# Altium integrated library TI_Logic_Specialty_Logic.IntLib: 2504 symbols (part 79 of 81)
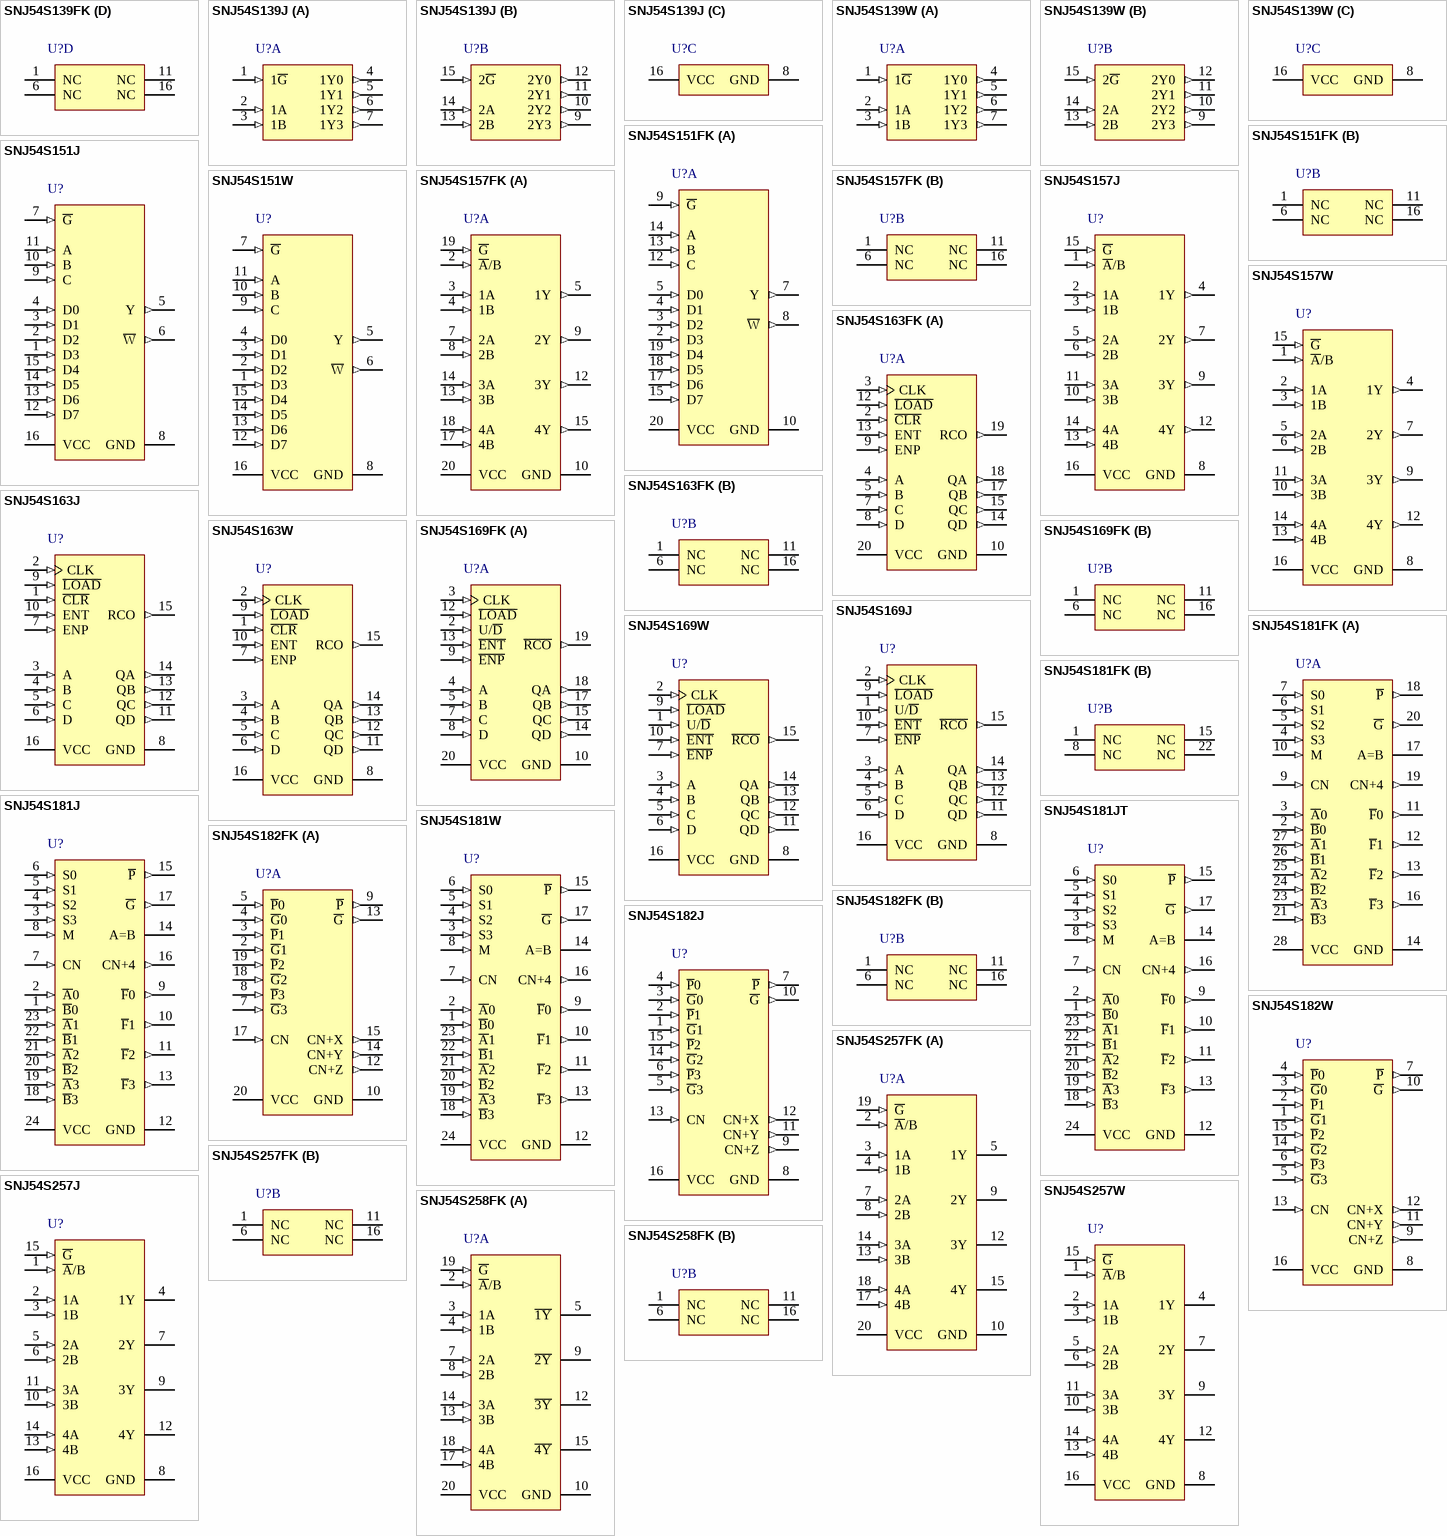
[diagram p182: symbols SNJ54S139FK to SNJ54S258FK]

## SNJ54S163FK
designator U?
Synchronous 4-Bit Counters, FK0020A, TUBE; Generic Part Number: SN54S163; Manufacturer: Texas Instruments; PartNumber: SNJ54S163FK; VCC(Min)(V): 4.75; VCC(Max)(V): 5.25; Inputs: 1; ICC @ Nom Voltage(Max)(mA): 160; Bits(#): 4; F @ Nom Voltage(Max)(Mhz): 50; Rating: Military; Technology Family: S; Output Drive (IOL/IOH)(Max)(mA): 20/-1; tpd @ Nom Voltage(Max)(ns): 25; DatasheetVersion: SDLS060; PackageReference: FK0020A; Function: Counter; Operating Temperature Range(C): -55 to 125; Type: Binary; Code_JEDEC: MS-004; ComponentLink1Description: Manufacturer URL; ComponentLink1URL: http://www.ti.com/; ComponentLink2Description: Datasheet; ComponentLink2URL: http://www.ti.com/lit/ds/symlink/sn54s163.pdf; ComponentLink3Description: Package Specification; ComponentLink3URL: http://www.ti.com/lit/ml/mlcc006d/mlcc006d.pdf
footprint FK0020A_N (LCC, 20-Leads, Body 8.9x8.9mm, Pitch 1.27mm, IPC Medium Density)
footprint FK0020A_M (LCC, 20-Leads, Body 8.9x8.9mm, Pitch 1.27mm, IPC Low Density)
footprint FK0020A_L (LCC, 20-Leads, Body 8.9x8.9mm, Pitch 1.27mm, IPC High Density)
part A pins: 2 ~{CLR} (in), 3 CLK (in), 4 A (in), 5 B (in), 7 C (in), 8 D (in), 9 ENP (in), 10 GND (power), 12 ~{LOAD} (in), 13 ENT (in), 14 QD (out), 15 QC (out), 17 QB (out), 18 QA (out), 19 RCO (out), 20 VCC (power)
part B pins: 1 NC, 6 NC, 11 NC, 16 NC

## SNJ54S163J
designator U?
Synchronous 4-Bit Counters, J0016A, TUBE; Generic Part Number: SN54S163; Manufacturer: Texas Instruments; PartNumber: SNJ54S163J; VCC(Min)(V): 4.75; VCC(Max)(V): 5.25; Inputs: 1; ICC @ Nom Voltage(Max)(mA): 160; Bits(#): 4; F @ Nom Voltage(Max)(Mhz): 50; Rating: Military; Technology Family: S; Output Drive (IOL/IOH)(Max)(mA): 20/-1; tpd @ Nom Voltage(Max)(ns): 25; DatasheetVersion: SDLS060; PackageReference: J0016A; Function: Counter; Operating Temperature Range(C): -55 to 125; Type: Binary; ComponentLink1Description: Manufacturer URL; ComponentLink1URL: http://www.ti.com/; ComponentLink2Description: Datasheet; ComponentLink2URL: http://www.ti.com/lit/ds/symlink/sn54s163.pdf; ComponentLink3Description: Package Specification; ComponentLink3URL: http://www.ti.com/lit/ml/mcer002d/mcer002d.pdf
footprint J0016A (DIP, 16-Leads, Body 21.35x7.2mm, Pitch 2.54mm)
pins: 1 ~{CLR} (in), 2 CLK (in), 3 A (in), 4 B (in), 5 C (in), 6 D (in), 7 ENP (in), 8 GND (power), 9 ~{LOAD} (in), 10 ENT (in), 11 QD (out), 12 QC (out), 13 QB (out), 14 QA (out), 15 RCO (out), 16 VCC (power)

## SNJ54S163W
designator U?
Synchronous 4-Bit Counters, W0016A, TUBE; Generic Part Number: SN54S163; Manufacturer: Texas Instruments; PartNumber: SNJ54S163W; VCC(Min)(V): 4.75; VCC(Max)(V): 5.25; Inputs: 1; ICC @ Nom Voltage(Max)(mA): 160; Bits(#): 4; F @ Nom Voltage(Max)(Mhz): 50; Rating: Military; Technology Family: S; Output Drive (IOL/IOH)(Max)(mA): 20/-1; tpd @ Nom Voltage(Max)(ns): 25; DatasheetVersion: SDLS060; PackageReference: W0016A; Function: Counter; Operating Temperature Range(C): -55 to 125; Type: Binary; ComponentLink1Description: Manufacturer URL; ComponentLink1URL: http://www.ti.com/; ComponentLink2Description: Datasheet; ComponentLink2URL: http://www.ti.com/lit/ds/symlink/sn54s163.pdf; ComponentLink3Description: Package Specification; ComponentLink3URL: http://www.ti.com/lit/ml/mcfp004c/mcfp004c.pdf
footprint W0016A_N (CFP, 16-Leads, Body 10.92x7.24mm, Pitch 1.27mm, IPC Medium Density)
footprint W0016A_M (CFP, 16-Leads, Body 10.92x7.24mm, Pitch 1.27mm, IPC Low Density)
footprint W0016A_L (CFP, 16-Leads, Body 10.92x7.24mm, Pitch 1.27mm, IPC High Density)
pins: 1 ~{CLR} (in), 2 CLK (in), 3 A (in), 4 B (in), 5 C (in), 6 D (in), 7 ENP (in), 8 GND (power), 9 ~{LOAD} (in), 10 ENT (in), 11 QD (out), 12 QC (out), 13 QB (out), 14 QA (out), 15 RCO (out), 16 VCC (power)

## SNJ54S169FK
designator U?
Synchronous 4-Bit Up/Down Binary Counters, FK0020A, TUBE; Generic Part Number: SN54S169; Manufacturer: Texas Instruments; PartNumber: SNJ54S169FK; Rating: Military; Technology Family: S; DatasheetVersion: SDLS134; PackageReference: FK0020A; Operating Temperature Range(C): -55 to 125; Code_JEDEC: MS-004; ComponentLink1Description: Manufacturer URL; ComponentLink1URL: http://www.ti.com/; ComponentLink2Description: Datasheet; ComponentLink2URL: http://www.ti.com/lit/ds/symlink/sn54s169.pdf; ComponentLink3Description: Package Specification; ComponentLink3URL: http://www.ti.com/lit/ml/mlcc006d/mlcc006d.pdf
footprint FK0020A_N (LCC, 20-Leads, Body 8.9x8.9mm, Pitch 1.27mm, IPC Medium Density)
footprint FK0020A_M (LCC, 20-Leads, Body 8.9x8.9mm, Pitch 1.27mm, IPC Low Density)
footprint FK0020A_L (LCC, 20-Leads, Body 8.9x8.9mm, Pitch 1.27mm, IPC High Density)
part A pins: 2 U/~{D} (in), 3 CLK (in), 4 A (in), 5 B (in), 7 C (in), 8 D (in), 9 ~{ENP} (in), 10 GND (power), 12 ~{LOAD} (in), 13 ~{ENT} (in), 14 QD (out), 15 QC (out), 17 QB (out), 18 QA (out), 19 ~{RCO} (out), 20 VCC (power)
part B pins: 1 NC, 6 NC, 11 NC, 16 NC

## SNJ54S169J
designator U?
Synchronous 4-Bit Up/Down Binary Counters, J0016A, TUBE; Generic Part Number: SN54S169; Manufacturer: Texas Instruments; PartNumber: SNJ54S169J; Rating: Military; Technology Family: S; DatasheetVersion: SDLS134; PackageReference: J0016A; Operating Temperature Range(C): -55 to 125; ComponentLink1Description: Manufacturer URL; ComponentLink1URL: http://www.ti.com/; ComponentLink2Description: Datasheet; ComponentLink2URL: http://www.ti.com/lit/ds/symlink/sn54s169.pdf; ComponentLink3Description: Package Specification; ComponentLink3URL: http://www.ti.com/lit/ml/mcer002d/mcer002d.pdf
footprint J0016A (DIP, 16-Leads, Body 21.35x7.2mm, Pitch 2.54mm)
pins: 1 U/~{D} (in), 2 CLK (in), 3 A (in), 4 B (in), 5 C (in), 6 D (in), 7 ~{ENP} (in), 8 GND (power), 9 ~{LOAD} (in), 10 ~{ENT} (in), 11 QD (out), 12 QC (out), 13 QB (out), 14 QA (out), 15 ~{RCO} (out), 16 VCC (power)

## SNJ54S169W
designator U?
Synchronous 4-Bit Up/Down Binary Counters, W0016A, TUBE; Generic Part Number: SN54S169; Manufacturer: Texas Instruments; PartNumber: SNJ54S169W; Rating: Military; Technology Family: S; DatasheetVersion: SDLS134; PackageReference: W0016A; Operating Temperature Range(C): -55 to 125; ComponentLink1Description: Manufacturer URL; ComponentLink1URL: http://www.ti.com/; ComponentLink2Description: Datasheet; ComponentLink2URL: http://www.ti.com/lit/ds/symlink/sn54s169.pdf; ComponentLink3Description: Package Specification; ComponentLink3URL: http://www.ti.com/lit/ml/mcfp004c/mcfp004c.pdf
footprint W0016A_N (CFP, 16-Leads, Body 10.92x7.24mm, Pitch 1.27mm, IPC Medium Density)
footprint W0016A_M (CFP, 16-Leads, Body 10.92x7.24mm, Pitch 1.27mm, IPC Low Density)
footprint W0016A_L (CFP, 16-Leads, Body 10.92x7.24mm, Pitch 1.27mm, IPC High Density)
pins: 1 U/~{D} (in), 2 CLK (in), 3 A (in), 4 B (in), 5 C (in), 6 D (in), 7 ~{ENP} (in), 8 GND (power), 9 ~{LOAD} (in), 10 ~{ENT} (in), 11 QD (out), 12 QC (out), 13 QB (out), 14 QA (out), 15 ~{RCO} (out), 16 VCC (power)

## SNJ54S181FK
designator U?
Arithmetic Logic Units/Function Generators, FK0028A, TUBE; Generic Part Number: SN54S181; Manufacturer: Texas Instruments; PartNumber: SNJ54S181FK; Rating: Military; Technology Family: S; DatasheetVersion: SDLS136; PackageReference: FK0028A; Operating Temperature Range(C): -55 to 125; Code_JEDEC: MS-004; ComponentLink1Description: Manufacturer URL; ComponentLink1URL: http://www.ti.com/; ComponentLink2Description: Datasheet; ComponentLink2URL: http://www.ti.com/lit/ds/symlink/sn54s181.pdf; ComponentLink3Description: Package Specification; ComponentLink3URL: http://www.ti.com/lit/ml/mlcc006d/mlcc006d.pdf
footprint FK0028A_N (LCC, 28-Leads, Body 11.43x11.43mm, Pitch 1.27mm, IPC Medium Density)
footprint FK0028A_M (LCC, 28-Leads, Body 11.43x11.43mm, Pitch 1.27mm, IPC Low Density)
footprint FK0028A_L (LCC, 28-Leads, Body 11.43x11.43mm, Pitch 1.27mm, IPC High Density)
part A pins: 2 ~{B}0 (in), 3 ~{A}0 (in), 4 S3 (in), 5 S2 (in), 6 S1 (in), 7 S0 (in), 9 CN (in), 10 M (in), 11 ~{F}0 (out), 12 ~{F}1 (out), 13 ~{F}2 (out), 14 GND (power), 16 ~{F}3 (out), 17 A=B (oc), 18 ~{P} (out), 19 CN+4 (out), 20 ~{G} (out), 21 ~{B}3 (in), 23 ~{A}3 (in), 24 ~{B}2 (in), 25 ~{A}2 (in), 26 ~{B}1 (in), 27 ~{A}1 (in), 28 VCC (power)
part B pins: 1 NC, 8 NC, 15 NC, 22 NC

## SNJ54S181J
designator U?
Arithmetic Logic Units/Function Generators, J0024A, TUBE; Generic Part Number: SN54S181; Manufacturer: Texas Instruments; PartNumber: SNJ54S181J; Rating: Military; Technology Family: S; DatasheetVersion: SDLS136; PackageReference: J0024A; Operating Temperature Range(C): -55 to 125; ComponentLink1Description: Manufacturer URL; ComponentLink1URL: http://www.ti.com/; ComponentLink2Description: Datasheet; ComponentLink2URL: http://www.ti.com/lit/ds/symlink/sn54s181.pdf; ComponentLink3Description: Package Specification; ComponentLink3URL: http://www.ti.com/lit/ml/mcer002d/mcer002d.pdf
footprint J0024A (DIP, 24-Leads, Body 32.15x14.85mm, Pitch 2.54mm)
pins: 1 ~{B}0 (in), 2 ~{A}0 (in), 3 S3 (in), 4 S2 (in), 5 S1 (in), 6 S0 (in), 7 CN (in), 8 M (in), 9 ~{F}0 (out), 10 ~{F}1 (out), 11 ~{F}2 (out), 12 GND (power), 13 ~{F}3 (out), 14 A=B (oc), 15 ~{P} (out), 16 CN+4 (out), 17 ~{G} (out), 18 ~{B}3 (in), 19 ~{A}3 (in), 20 ~{B}2 (in), 21 ~{A}2 (in), 22 ~{B}1 (in), 23 ~{A}1 (in), 24 VCC (power)

## SNJ54S181JT
designator U?
Arithmetic Logic Units/Function Generators, JT0024A, TUBE; Generic Part Number: SN54S181; Manufacturer: Texas Instruments; PartNumber: SNJ54S181JT; Rating: Military; Technology Family: S; DatasheetVersion: SDLS136; PackageReference: JT0024A; Operating Temperature Range(C): -55 to 125; Code_JEDEC: MO-058 AA; ComponentLink1Description: Manufacturer URL; ComponentLink1URL: http://www.ti.com/; ComponentLink2Description: Datasheet; ComponentLink2URL: http://www.ti.com/lit/ds/symlink/sn54s181.pdf; ComponentLink3Description: Package Specification; ComponentLink3URL: http://www.ti.com/lit/ml/mcer004a/mcer004a.pdf
footprint JT0024A (DIP, 24-Leads, Body 7.2x32.5mm, Pitch 2.54mm)
pins: 1 ~{B}0 (in), 2 ~{A}0 (in), 3 S3 (in), 4 S2 (in), 5 S1 (in), 6 S0 (in), 7 CN (in), 8 M (in), 9 ~{F}0 (out), 10 ~{F}1 (out), 11 ~{F}2 (out), 12 GND (power), 13 ~{F}3 (out), 14 A=B (oc), 15 ~{P} (out), 16 CN+4 (out), 17 ~{G} (out), 18 ~{B}3 (in), 19 ~{A}3 (in), 20 ~{B}2 (in), 21 ~{A}2 (in), 22 ~{B}1 (in), 23 ~{A}1 (in), 24 VCC (power)

## SNJ54S181W
designator U?
Arithmetic Logic Units/Function Generators, W0024A, TUBE; Generic Part Number: SN54S181; Manufacturer: Texas Instruments; PartNumber: SNJ54S181W; Rating: Military; Technology Family: S; DatasheetVersion: SDLS136; PackageReference: W0024A; Operating Temperature Range(C): -55 to 125; ComponentLink1Description: Manufacturer URL; ComponentLink1URL: http://www.ti.com/; ComponentLink2Description: Datasheet; ComponentLink2URL: http://www.ti.com/lit/ds/symlink/sn54s181.pdf; ComponentLink3Description: Package Specification; ComponentLink3URL: http://www.ti.com/lit/ml/mcfp006d/mcfp006d.pdf
footprint W0024A_N (CFP, 24-Leads, Body 16.26x9.53mm, Pitch 1.27mm, IPC Medium Density)
footprint W0024A_M (CFP, 24-Leads, Body 16.26x9.53mm, Pitch 1.27mm, IPC Low Density)
footprint W0024A_L (CFP, 24-Leads, Body 16.26x9.53mm, Pitch 1.27mm, IPC High Density)
pins: 1 ~{B}0 (in), 2 ~{A}0 (in), 3 S3 (in), 4 S2 (in), 5 S1 (in), 6 S0 (in), 7 CN (in), 8 M (in), 9 ~{F}0 (out), 10 ~{F}1 (out), 11 ~{F}2 (out), 12 GND (power), 13 ~{F}3 (out), 14 A=B (oc), 15 ~{P} (out), 16 CN+4 (out), 17 ~{G} (out), 18 ~{B}3 (in), 19 ~{A}3 (in), 20 ~{B}2 (in), 21 ~{A}2 (in), 22 ~{B}1 (in), 23 ~{A}1 (in), 24 VCC (power)

## SNJ54S182FK
designator U?
Look-Ahead Carry Generators, FK0020A, TUBE; Generic Part Number: SN54S182; Manufacturer: Texas Instruments; PartNumber: SNJ54S182FK; Rating: Military; Technology Family: S; DatasheetVersion: SDLS206; PackageReference: FK0020A; Operating Temperature Range(C): -55 to 125; Code_JEDEC: MS-004; ComponentLink1Description: Manufacturer URL; ComponentLink1URL: http://www.ti.com/; ComponentLink2Description: Datasheet; ComponentLink2URL: http://www.ti.com/lit/ds/symlink/sn54s182.pdf; ComponentLink3Description: Package Specification; ComponentLink3URL: http://www.ti.com/lit/ml/mlcc006d/mlcc006d.pdf
footprint FK0020A_N (LCC, 20-Leads, Body 8.9x8.9mm, Pitch 1.27mm, IPC Medium Density)
footprint FK0020A_M (LCC, 20-Leads, Body 8.9x8.9mm, Pitch 1.27mm, IPC Low Density)
footprint FK0020A_L (LCC, 20-Leads, Body 8.9x8.9mm, Pitch 1.27mm, IPC High Density)
part A pins: 2 ~{G}1 (in), 3 ~{P}1 (in), 4 ~{G}0 (in), 5 ~{P}0 (in), 7 ~{G}3 (in), 8 ~{P}3 (in), 9 ~{P} (out), 10 GND (power), 12 CN+Z (out), 13 ~{G} (out), 14 CN+Y (out), 15 CN+X (out), 17 CN (in), 18 ~{G}2 (in), 19 ~{P}2 (in), 20 VCC (power)
part B pins: 1 NC, 6 NC, 11 NC, 16 NC

## SNJ54S182J
designator U?
Look-Ahead Carry Generators, J0016A, TUBE; Generic Part Number: SN54S182; Manufacturer: Texas Instruments; PartNumber: SNJ54S182J; Rating: Military; Technology Family: S; DatasheetVersion: SDLS206; PackageReference: J0016A; Operating Temperature Range(C): -55 to 125; ComponentLink1Description: Manufacturer URL; ComponentLink1URL: http://www.ti.com/; ComponentLink2Description: Datasheet; ComponentLink2URL: http://www.ti.com/lit/ds/symlink/sn54s182.pdf; ComponentLink3Description: Package Specification; ComponentLink3URL: http://www.ti.com/lit/ml/mcer002d/mcer002d.pdf
footprint J0016A (DIP, 16-Leads, Body 21.35x7.2mm, Pitch 2.54mm)
pins: 1 ~{G}1 (in), 2 ~{P}1 (in), 3 ~{G}0 (in), 4 ~{P}0 (in), 5 ~{G}3 (in), 6 ~{P}3 (in), 7 ~{P} (out), 8 GND (power), 9 CN+Z (out), 10 ~{G} (out), 11 CN+Y (out), 12 CN+X (out), 13 CN (in), 14 ~{G}2 (in), 15 ~{P}2 (in), 16 VCC (power)

## SNJ54S182W
designator U?
Look-Ahead Carry Generators, W0016A, TUBE; Generic Part Number: SN54S182; Manufacturer: Texas Instruments; PartNumber: SNJ54S182W; Rating: Military; Technology Family: S; DatasheetVersion: SDLS206; PackageReference: W0016A; Operating Temperature Range(C): -55 to 125; ComponentLink1Description: Manufacturer URL; ComponentLink1URL: http://www.ti.com/; ComponentLink2Description: Datasheet; ComponentLink2URL: http://www.ti.com/lit/ds/symlink/sn54s182.pdf; ComponentLink3Description: Package Specification; ComponentLink3URL: http://www.ti.com/lit/ml/mcfp004c/mcfp004c.pdf
footprint W0016A_N (CFP, 16-Leads, Body 10.92x7.24mm, Pitch 1.27mm, IPC Medium Density)
footprint W0016A_M (CFP, 16-Leads, Body 10.92x7.24mm, Pitch 1.27mm, IPC Low Density)
footprint W0016A_L (CFP, 16-Leads, Body 10.92x7.24mm, Pitch 1.27mm, IPC High Density)
pins: 1 ~{G}1 (in), 2 ~{P}1 (in), 3 ~{G}0 (in), 4 ~{P}0 (in), 5 ~{G}3 (in), 6 ~{P}3 (in), 7 ~{P} (out), 8 GND (power), 9 CN+Z (out), 10 ~{G} (out), 11 CN+Y (out), 12 CN+X (out), 13 CN (in), 14 ~{G}2 (in), 15 ~{P}2 (in), 16 VCC (power)

## SNJ54S257FK
designator U?
Quadruple 2-Line To 1-Line Data Selectors/Multiplexers, FK0020A, TUBE; Generic Part Number: SN54S257; Manufacturer: Texas Instruments; PartNumber: SNJ54S257FK; VCC(Min)(V): 4.5; VCC(Max)(V): 5.5; Rating: Military; Technology Family: S; Schmitt Trigger: No; DatasheetVersion: SDLS148; PackageReference: FK0020A; Operating Temperature Range(C): -55 to 125; Code_JEDEC: MS-004; ComponentLink1Description: Manufacturer URL; ComponentLink1URL: http://www.ti.com/; ComponentLink2Description: Datasheet; ComponentLink2URL: http://www.ti.com/lit/ds/symlink/sn54s257.pdf; ComponentLink3Description: Package Specification; ComponentLink3URL: http://www.ti.com/lit/ml/mlcc006d/mlcc006d.pdf
footprint FK0020A_N (LCC, 20-Leads, Body 8.9x8.9mm, Pitch 1.27mm, IPC Medium Density)
footprint FK0020A_M (LCC, 20-Leads, Body 8.9x8.9mm, Pitch 1.27mm, IPC Low Density)
footprint FK0020A_L (LCC, 20-Leads, Body 8.9x8.9mm, Pitch 1.27mm, IPC High Density)
part A pins: 2 ~{A}/B (in), 3 1A (in), 4 1B (in), 5 1Y (hiz), 7 2A (in), 8 2B (in), 9 2Y (hiz), 10 GND (power), 12 3Y (hiz), 13 3B (in), 14 3A (in), 15 4Y (hiz), 17 4B (in), 18 4A (in), 19 ~{G} (in), 20 VCC (power)
part B pins: 1 NC, 6 NC, 11 NC, 16 NC

## SNJ54S257J
designator U?
Quadruple 2-Line To 1-Line Data Selectors/Multiplexers, J0016A, TUBE; Generic Part Number: SN54S257; Manufacturer: Texas Instruments; PartNumber: SNJ54S257J; VCC(Min)(V): 4.5; VCC(Max)(V): 5.5; Rating: Military; Technology Family: S; Schmitt Trigger: No; DatasheetVersion: SDLS148; PackageReference: J0016A; Operating Temperature Range(C): -55 to 125; ComponentLink1Description: Manufacturer URL; ComponentLink1URL: http://www.ti.com/; ComponentLink2Description: Datasheet; ComponentLink2URL: http://www.ti.com/lit/ds/symlink/sn54s257.pdf; ComponentLink3Description: Package Specification; ComponentLink3URL: http://www.ti.com/lit/ml/mcer002d/mcer002d.pdf
footprint J0016A (DIP, 16-Leads, Body 21.35x7.2mm, Pitch 2.54mm)
pins: 1 ~{A}/B (in), 2 1A (in), 3 1B (in), 4 1Y (hiz), 5 2A (in), 6 2B (in), 7 2Y (hiz), 8 GND (power), 9 3Y (hiz), 10 3B (in), 11 3A (in), 12 4Y (hiz), 13 4B (in), 14 4A (in), 15 ~{G} (in), 16 VCC (power)

## SNJ54S257W
designator U?
Quadruple 2-Line To 1-Line Data Selectors/Multiplexers, W0016A, TUBE; Generic Part Number: SN54S257; Manufacturer: Texas Instruments; PartNumber: SNJ54S257W; VCC(Min)(V): 4.5; VCC(Max)(V): 5.5; Rating: Military; Technology Family: S; Schmitt Trigger: No; DatasheetVersion: SDLS148; PackageReference: W0016A; Operating Temperature Range(C): -55 to 125; ComponentLink1Description: Manufacturer URL; ComponentLink1URL: http://www.ti.com/; ComponentLink2Description: Datasheet; ComponentLink2URL: http://www.ti.com/lit/ds/symlink/sn54s257.pdf; ComponentLink3Description: Package Specification; ComponentLink3URL: http://www.ti.com/lit/ml/mcfp004c/mcfp004c.pdf
footprint W0016A_N (CFP, 16-Leads, Body 10.92x7.24mm, Pitch 1.27mm, IPC Medium Density)
footprint W0016A_M (CFP, 16-Leads, Body 10.92x7.24mm, Pitch 1.27mm, IPC Low Density)
footprint W0016A_L (CFP, 16-Leads, Body 10.92x7.24mm, Pitch 1.27mm, IPC High Density)
pins: 1 ~{A}/B (in), 2 1A (in), 3 1B (in), 4 1Y (hiz), 5 2A (in), 6 2B (in), 7 2Y (hiz), 8 GND (power), 9 3Y (hiz), 10 3B (in), 11 3A (in), 12 4Y (hiz), 13 4B (in), 14 4A (in), 15 ~{G} (in), 16 VCC (power)

## SNJ54S258FK
designator U?
Quadruple 2-Line To 1-Line Data Selectors/Multiplexers, FK0020A, TUBE; Generic Part Number: SN54S258; Manufacturer: Texas Instruments; PartNumber: SNJ54S258FK; VCC(Min)(V): 4.5; VCC(Max)(V): 5.5; Rating: Military; Technology Family: S; Schmitt Trigger: No; DatasheetVersion: SDLS148; PackageReference: FK0020A; Operating Temperature Range(C): -55 to 125; Code_JEDEC: MS-004; ComponentLink1Description: Manufacturer URL; ComponentLink1URL: http://www.ti.com/; ComponentLink2Description: Datasheet; ComponentLink2URL: http://www.ti.com/lit/ds/symlink/sn54s258.pdf; ComponentLink3Description: Package Specification; ComponentLink3URL: http://www.ti.com/lit/ml/mlcc006d/mlcc006d.pdf
footprint FK0020A_N (LCC, 20-Leads, Body 8.9x8.9mm, Pitch 1.27mm, IPC Medium Density)
footprint FK0020A_M (LCC, 20-Leads, Body 8.9x8.9mm, Pitch 1.27mm, IPC Low Density)
footprint FK0020A_L (LCC, 20-Leads, Body 8.9x8.9mm, Pitch 1.27mm, IPC High Density)
part A pins: 2 ~{A}/B (in), 3 1A (in), 4 1B (in), 5 ~{1Y} (hiz), 7 2A (in), 8 2B (in), 9 ~{2Y} (hiz), 10 GND (power), 12 ~{3Y} (hiz), 13 3B (in), 14 3A (in), 15 ~{4Y} (hiz), 17 4B (in), 18 4A (in), 19 ~{G} (in), 20 VCC (power)
part B pins: 1 NC, 6 NC, 11 NC, 16 NC

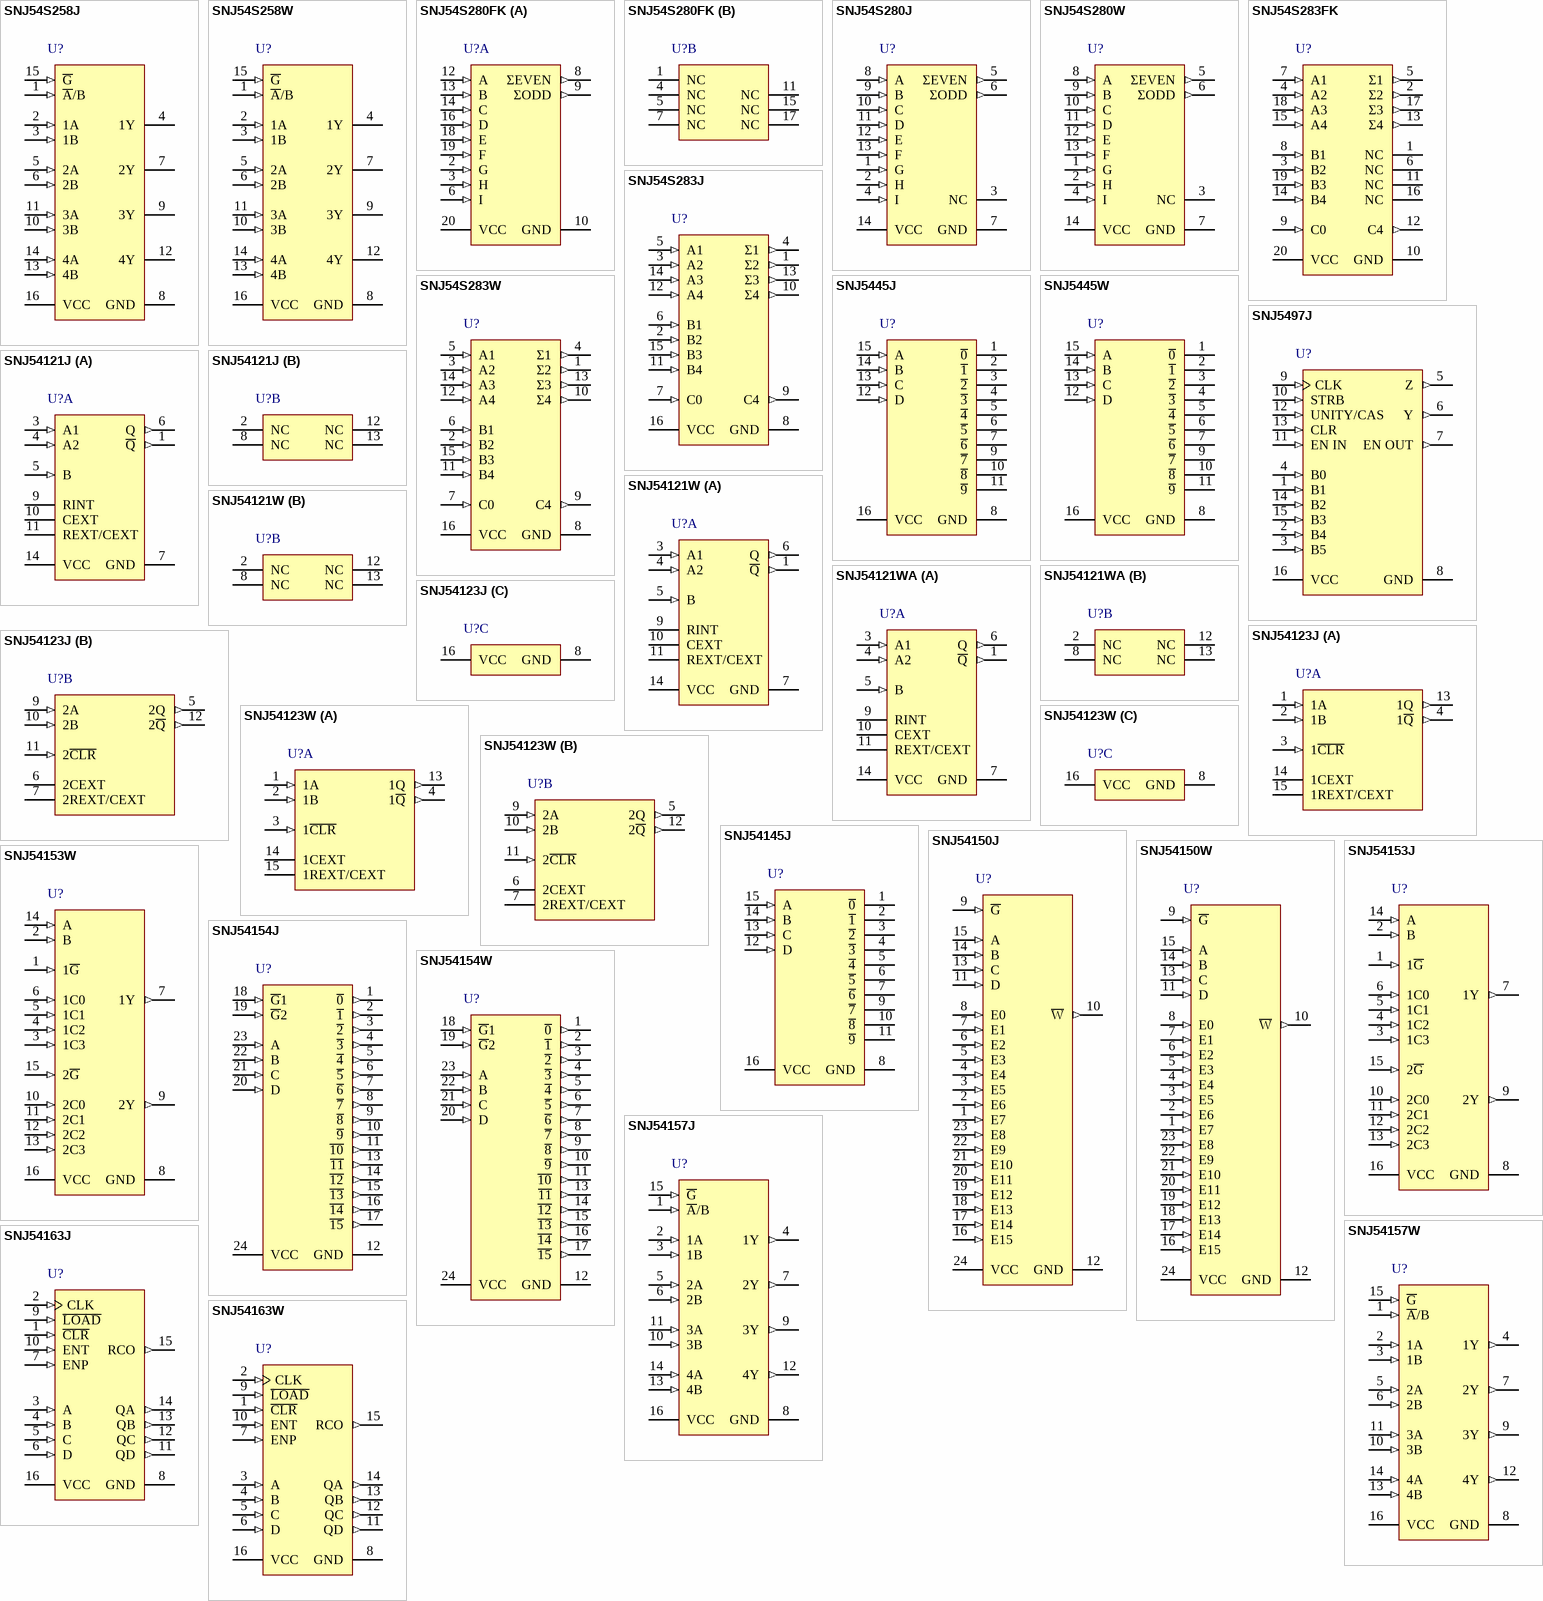
[diagram p100: symbols SNJ54S258J to SNJ54163W]

## SNJ54S258J
designator U?
Quadruple 2-Line To 1-Line Data Selectors/Multiplexers, J0016A, TUBE; Generic Part Number: SN54S258; Manufacturer: Texas Instruments; PartNumber: SNJ54S258J; VCC(Min)(V): 4.5; VCC(Max)(V): 5.5; Rating: Military; Technology Family: S; Schmitt Trigger: No; DatasheetVersion: SDLS148; PackageReference: J0016A; Operating Temperature Range(C): -55 to 125; ComponentLink1Description: Manufacturer URL; ComponentLink1URL: http://www.ti.com/; ComponentLink2Description: Datasheet; ComponentLink2URL: http://www.ti.com/lit/ds/symlink/sn54s258.pdf; ComponentLink3Description: Package Specification; ComponentLink3URL: http://www.ti.com/lit/ml/mcer002d/mcer002d.pdf
footprint J0016A (DIP, 16-Leads, Body 21.35x7.2mm, Pitch 2.54mm)
pins: 1 ~{A}/B (in), 2 1A (in), 3 1B (in), 4 1Y (hiz), 5 2A (in), 6 2B (in), 7 2Y (hiz), 8 GND (power), 9 3Y (hiz), 10 3B (in), 11 3A (in), 12 4Y (hiz), 13 4B (in), 14 4A (in), 15 ~{G} (in), 16 VCC (power)

## SNJ54S258W
designator U?
Quadruple 2-Line To 1-Line Data Selectors/Multiplexers, W0016A, TUBE; Generic Part Number: SN54S258; Manufacturer: Texas Instruments; PartNumber: SNJ54S258W; VCC(Min)(V): 4.5; VCC(Max)(V): 5.5; Rating: Military; Technology Family: S; Schmitt Trigger: No; DatasheetVersion: SDLS148; PackageReference: W0016A; Operating Temperature Range(C): -55 to 125; ComponentLink1Description: Manufacturer URL; ComponentLink1URL: http://www.ti.com/; ComponentLink2Description: Datasheet; ComponentLink2URL: http://www.ti.com/lit/ds/symlink/sn54s258.pdf; ComponentLink3Description: Package Specification; ComponentLink3URL: http://www.ti.com/lit/ml/mcfp004c/mcfp004c.pdf
footprint W0016A_N (CFP, 16-Leads, Body 10.92x7.24mm, Pitch 1.27mm, IPC Medium Density)
footprint W0016A_M (CFP, 16-Leads, Body 10.92x7.24mm, Pitch 1.27mm, IPC Low Density)
footprint W0016A_L (CFP, 16-Leads, Body 10.92x7.24mm, Pitch 1.27mm, IPC High Density)
pins: 1 ~{A}/B (in), 2 1A (in), 3 1B (in), 4 1Y (hiz), 5 2A (in), 6 2B (in), 7 2Y (hiz), 8 GND (power), 9 3Y (hiz), 10 3B (in), 11 3A (in), 12 4Y (hiz), 13 4B (in), 14 4A (in), 15 ~{G} (in), 16 VCC (power)

## SNJ54S280FK
designator U?
9-Bit Odd/Even Parity Generators/Checkers, FK0020A, TUBE; Generic Part Number: SN54S280; Manufacturer: Texas Instruments; PartNumber: SNJ54S280FK; Rating: Military; Technology Family: S; DatasheetVersion: SDLS152; PackageReference: FK0020A; Operating Temperature Range(C): -55 to 125; Code_JEDEC: MS-004; ComponentLink1Description: Manufacturer URL; ComponentLink1URL: http://www.ti.com/; ComponentLink2Description: Datasheet; ComponentLink2URL: http://www.ti.com/lit/ds/symlink/sn54s280.pdf; ComponentLink3Description: Package Specification; ComponentLink3URL: http://www.ti.com/lit/ml/mlcc006d/mlcc006d.pdf
footprint FK0020A_N (LCC, 20-Leads, Body 8.9x8.9mm, Pitch 1.27mm, IPC Medium Density)
footprint FK0020A_M (LCC, 20-Leads, Body 8.9x8.9mm, Pitch 1.27mm, IPC Low Density)
footprint FK0020A_L (LCC, 20-Leads, Body 8.9x8.9mm, Pitch 1.27mm, IPC High Density)
part A pins: 2 G (in), 3 H (in), 6 I (in), 8 ΣEVEN (out), 9 ΣODD (out), 10 GND (power), 12 A (in), 13 B (in), 14 C (in), 16 D (in), 18 E (in), 19 F (in), 20 VCC (power)
part B pins: 1 NC, 4 NC, 5 NC, 7 NC, 11 NC, 15 NC, 17 NC

## SNJ54S280J
designator U?
9-Bit Odd/Even Parity Generators/Checkers, J0014A, TUBE; Generic Part Number: SN54S280; Manufacturer: Texas Instruments; PartNumber: SNJ54S280J; Rating: Military; Technology Family: S; DatasheetVersion: SDLS152; PackageReference: J0014A; Operating Temperature Range(C): -55 to 125; ComponentLink1Description: Manufacturer URL; ComponentLink1URL: http://www.ti.com/; ComponentLink2Description: Datasheet; ComponentLink2URL: http://www.ti.com/lit/ds/symlink/sn54s280.pdf; ComponentLink3Description: Package Specification; ComponentLink3URL: http://www.ti.com/lit/ml/mcer002d/mcer002d.pdf
footprint J0014A (DIP, 14-Leads, Body 19.95x7.2mm, Pitch 2.54mm)
pins: 1 G (in), 2 H (in), 3 NC, 4 I (in), 5 ΣEVEN (out), 6 ΣODD (out), 7 GND (power), 8 A (in), 9 B (in), 10 C (in), 11 D (in), 12 E (in), 13 F (in), 14 VCC (power)

## SNJ54S280W
designator U?
9-Bit Odd/Even Parity Generators/Checkers, W0014A, TUBE; Generic Part Number: SN54S280; Manufacturer: Texas Instruments; PartNumber: SNJ54S280W; Rating: Military; Technology Family: S; DatasheetVersion: SDLS152; PackageReference: W0014A; Operating Temperature Range(C): -55 to 125; ComponentLink1Description: Manufacturer URL; ComponentLink1URL: http://www.ti.com/; ComponentLink2Description: Datasheet; ComponentLink2URL: http://www.ti.com/lit/ds/symlink/sn54s280.pdf; ComponentLink3Description: Package Specification; ComponentLink3URL: http://www.ti.com/lit/ml/mcfp002c/mcfp002c.pdf
footprint W0014A_N (CFP, 14-Leads, Body 9.91x6.6mm, Pitch 1.27mm, IPC Medium Density)
footprint W0014A_M (CFP, 14-Leads, Body 9.91x6.6mm, Pitch 1.27mm, IPC Low Density)
footprint W0014A_L (CFP, 14-Leads, Body 9.91x6.6mm, Pitch 1.27mm, IPC High Density)
pins: 1 G (in), 2 H (in), 3 NC, 4 I (in), 5 ΣEVEN (out), 6 ΣODD (out), 7 GND (power), 8 A (in), 9 B (in), 10 C (in), 11 D (in), 12 E (in), 13 F (in), 14 VCC (power)

## SNJ54S283FK
designator U?
4-Bit Binary Full Adders With Fast Carry, FK0020A, TUBE; Generic Part Number: SN54S283; Manufacturer: Texas Instruments; PartNumber: SNJ54S283FK; VCC(Min)(V): 4.75; VCC(Max)(V): 5.25; Inputs: 9; Function: Arithmetic; ICC @ Nom Voltage(Max)(mA): 160; Bits(#): 4; F @ Nom Voltage(Max)(Mhz): 50; Rating: Military; Technology Family: S; Output Drive (IOL/IOH)(Max)(mA): 20/-1; tpd @ Nom Voltage(Max)(ns): 18; DatasheetVersion: SDLS095A; PackageReference: FK0020A; Operating Temperature Range(C): -55 to 125; Type: Binary; Code_JEDEC: MS-004; ComponentLink1Description: Manufacturer URL; ComponentLink1URL: http://www.ti.com/; ComponentLink2Description: Datasheet; ComponentLink2URL: http://www.ti.com/lit/ds/symlink/sn54s283.pdf; ComponentLink3Description: Package Specification; ComponentLink3URL: http://www.ti.com/lit/ml/mlcc006d/mlcc006d.pdf
footprint FK0020A_N (LCC, 20-Leads, Body 8.9x8.9mm, Pitch 1.27mm, IPC Medium Density)
footprint FK0020A_M (LCC, 20-Leads, Body 8.9x8.9mm, Pitch 1.27mm, IPC Low Density)
footprint FK0020A_L (LCC, 20-Leads, Body 8.9x8.9mm, Pitch 1.27mm, IPC High Density)
pins: 1 NC, 2 Σ2 (out), 3 B2 (in), 4 A2 (in), 5 Σ1 (out), 6 NC, 7 A1 (in), 8 B1 (in), 9 C0 (in), 10 GND (power), 11 NC, 12 C4 (out), 13 Σ4 (out), 14 B4 (in), 15 A4 (in), 16 NC, 17 Σ3 (out), 18 A3 (in), 19 B3 (in), 20 VCC (power)

## SNJ54S283J
designator U?
4-Bit Binary Full Adders With Fast Carry, J0016A, TUBE; Generic Part Number: SN54S283; Manufacturer: Texas Instruments; PartNumber: SNJ54S283J; VCC(Min)(V): 4.75; VCC(Max)(V): 5.25; Inputs: 9; Function: Arithmetic; ICC @ Nom Voltage(Max)(mA): 160; Bits(#): 4; F @ Nom Voltage(Max)(Mhz): 50; Rating: Military; Technology Family: S; Output Drive (IOL/IOH)(Max)(mA): 20/-1; tpd @ Nom Voltage(Max)(ns): 18; DatasheetVersion: SDLS095A; PackageReference: J0016A; Operating Temperature Range(C): -55 to 125; Type: Binary; ComponentLink1Description: Manufacturer URL; ComponentLink1URL: http://www.ti.com/; ComponentLink2Description: Datasheet; ComponentLink2URL: http://www.ti.com/lit/ds/symlink/sn54s283.pdf; ComponentLink3Description: Package Specification; ComponentLink3URL: http://www.ti.com/lit/ml/mcer002d/mcer002d.pdf
footprint J0016A (DIP, 16-Leads, Body 21.35x7.2mm, Pitch 2.54mm)
pins: 1 Σ2 (out), 2 B2 (in), 3 A2 (in), 4 Σ1 (out), 5 A1 (in), 6 B1 (in), 7 C0 (in), 8 GND (power), 9 C4 (out), 10 Σ4 (out), 11 B4 (in), 12 A4 (in), 13 Σ3 (out), 14 A3 (in), 15 B3 (in), 16 VCC (power)

## SNJ54S283W
designator U?
4-Bit Binary Full Adders With Fast Carry, W0016A, TUBE; Generic Part Number: SN54S283; Manufacturer: Texas Instruments; PartNumber: SNJ54S283W; VCC(Min)(V): 4.75; VCC(Max)(V): 5.25; Inputs: 9; Function: Arithmetic; ICC @ Nom Voltage(Max)(mA): 160; Bits(#): 4; F @ Nom Voltage(Max)(Mhz): 50; Rating: Military; Technology Family: S; Output Drive (IOL/IOH)(Max)(mA): 20/-1; tpd @ Nom Voltage(Max)(ns): 18; DatasheetVersion: SDLS095A; PackageReference: W0016A; Operating Temperature Range(C): -55 to 125; Type: Binary; ComponentLink1Description: Manufacturer URL; ComponentLink1URL: http://www.ti.com/; ComponentLink2Description: Datasheet; ComponentLink2URL: http://www.ti.com/lit/ds/symlink/sn54s283.pdf; ComponentLink3Description: Package Specification; ComponentLink3URL: http://www.ti.com/lit/ml/mcfp004c/mcfp004c.pdf
footprint W0016A_N (CFP, 16-Leads, Body 10.92x7.24mm, Pitch 1.27mm, IPC Medium Density)
footprint W0016A_M (CFP, 16-Leads, Body 10.92x7.24mm, Pitch 1.27mm, IPC Low Density)
footprint W0016A_L (CFP, 16-Leads, Body 10.92x7.24mm, Pitch 1.27mm, IPC High Density)
pins: 1 Σ2 (out), 2 B2 (in), 3 A2 (in), 4 Σ1 (out), 5 A1 (in), 6 B1 (in), 7 C0 (in), 8 GND (power), 9 C4 (out), 10 Σ4 (out), 11 B4 (in), 12 A4 (in), 13 Σ3 (out), 14 A3 (in), 15 B3 (in), 16 VCC (power)

## SNJ5445J
designator U?
BCD-to-Decimal Decoders/Drivers, J0016A, TUBE; Generic Part Number: SN5445; Manufacturer: Texas Instruments; PartNumber: SNJ5445J; VCC(Min)(V): 4.5; VCC(Max)(V): 5.5; Rating: Military; Technology Family: TTL; Schmitt Trigger: No; DatasheetVersion: SDLS110; PackageReference: J0016A; Operating Temperature Range(C): -55 to 125; ComponentLink1Description: Manufacturer URL; ComponentLink1URL: http://www.ti.com/; ComponentLink2Description: Datasheet; ComponentLink2URL: http://www.ti.com/lit/ds/symlink/sn5445.pdf; ComponentLink3Description: Package Specification; ComponentLink3URL: http://www.ti.com/lit/ml/mcer002d/mcer002d.pdf
footprint J0016A (DIP, 16-Leads, Body 21.35x7.2mm, Pitch 2.54mm)
pins: 1 ~{0} (oc), 2 ~{1} (oc), 3 ~{2} (oc), 4 ~{3} (oc), 5 ~{4} (oc), 6 ~{5} (oc), 7 ~{6} (oc), 8 GND (power), 9 ~{7} (oc), 10 ~{8} (oc), 11 ~{9} (oc), 12 D (in), 13 C (in), 14 B (in), 15 A (in), 16 VCC (power)

## SNJ5445W
designator U?
BCD-to-Decimal Decoders/Drivers, W0016A, TUBE; Generic Part Number: SN5445; Manufacturer: Texas Instruments; PartNumber: SNJ5445W; VCC(Min)(V): 4.5; VCC(Max)(V): 5.5; Rating: Military; Technology Family: TTL; Schmitt Trigger: No; DatasheetVersion: SDLS110; PackageReference: W0016A; Operating Temperature Range(C): -55 to 125; ComponentLink1Description: Manufacturer URL; ComponentLink1URL: http://www.ti.com/; ComponentLink2Description: Datasheet; ComponentLink2URL: http://www.ti.com/lit/ds/symlink/sn5445.pdf; ComponentLink3Description: Package Specification; ComponentLink3URL: http://www.ti.com/lit/ml/mcfp004c/mcfp004c.pdf
footprint W0016A_N (CFP, 16-Leads, Body 10.92x7.24mm, Pitch 1.27mm, IPC Medium Density)
footprint W0016A_M (CFP, 16-Leads, Body 10.92x7.24mm, Pitch 1.27mm, IPC Low Density)
footprint W0016A_L (CFP, 16-Leads, Body 10.92x7.24mm, Pitch 1.27mm, IPC High Density)
pins: 1 ~{0} (oc), 2 ~{1} (oc), 3 ~{2} (oc), 4 ~{3} (oc), 5 ~{4} (oc), 6 ~{5} (oc), 7 ~{6} (oc), 8 GND (power), 9 ~{7} (oc), 10 ~{8} (oc), 11 ~{9} (oc), 12 D (in), 13 C (in), 14 B (in), 15 A (in), 16 VCC (power)

## SNJ5497J
designator U?
Synchronous 6-Bit Binary Rate Multipliers, J0016A, TUBE; Generic Part Number: SN5497; Manufacturer: Texas Instruments; PartNumber: SNJ5497J; VCC(Min)(V): 4.75; VCC(Max)(V): 5.25; Output Type: TTL; ICC @ Nom Voltage(Max)(mA): 120; Bits(#): 6; F @ Nom Voltage(Max)(Mhz): 75; Rating: Military; Voltage(Nom)(V): 5; Output Drive (IOL/IOH)(Max)(mA): 16/-0.4; tpd @ Nom Voltage(Max)(ns): 39; DatasheetVersion: SDLS130; PackageReference: J0016A; Input Type: TTL; Operating Temperature Range(C): -55 to 125; Technology Family: TTL; ComponentLink1Description: Manufacturer URL; ComponentLink1URL: http://www.ti.com/; ComponentLink2Description: Datasheet; ComponentLink2URL: http://www.ti.com/lit/ds/symlink/sn5497.pdf
footprint J0016A (DIP, 16-Leads, Body 21.35x7.2mm, Pitch 2.54mm)
pins: 1 B1 (in), 2 B4 (in), 3 B5 (in), 4 B0 (in), 5 Z (out), 6 Y (out), 7 EN OUT (out), 8 GND (power), 9 CLK (in), 10 STRB (in), 11 EN IN (in), 12 UNITY/CAS (in), 13 CLR (in), 14 B2 (in), 15 B3 (in), 16 VCC (power)

## SNJ54121J
designator U?
Monostable Multivibrators With Schmitt-trigger Inputs, J0014A, TUBE; Generic Part Number: SN54121; Manufacturer: Texas Instruments; PartNumber: SNJ54121J; VCC(Min)(V): 4.75; VCC(Max)(V): 5.25; Output Type: TTL; ICC @ Nom Voltage(Max)(mA): 40; Bits(#): 1; Rating: Military; Output Drive (IOL/IOH)(Max)(mA): 16/-0.4; tpd @ Nom Voltage(Max)(ns): 80; DatasheetVersion: SDLS042A; PackageReference: J0014A; Input Type: TTL; Operating Temperature Range(C): -55 to 125; Technology Family: TTL; ComponentLink1Description: Manufacturer URL; ComponentLink1URL: http://www.ti.com/; ComponentLink2Description: Datasheet; ComponentLink2URL: http://www.ti.com/lit/ds/symlink/sn54121.pdf; ComponentLink3Description: Package Specification; ComponentLink3URL: http://www.ti.com/lit/ml/mcer002d/mcer002d.pdf
footprint J0014A (DIP, 14-Leads, Body 19.95x7.2mm, Pitch 2.54mm)
part A pins: 1 ~{Q} (out), 3 A1 (in), 4 A2 (in), 5 B (in), 6 Q (out), 7 GND (power), 9 RINT, 10 CEXT, 11 REXT/CEXT, 14 VCC (power)
part B pins: 2 NC, 8 NC, 12 NC, 13 NC

## SNJ54121W
designator U?
Monostable Multivibrators With Schmitt-trigger Inputs, W0014A, TUBE; Generic Part Number: SN54121; Manufacturer: Texas Instruments; PartNumber: SNJ54121W; VCC(Min)(V): 4.75; VCC(Max)(V): 5.25; Output Type: TTL; ICC @ Nom Voltage(Max)(mA): 40; Bits(#): 1; Rating: Military; Output Drive (IOL/IOH)(Max)(mA): 16/-0.4; tpd @ Nom Voltage(Max)(ns): 80; DatasheetVersion: SDLS042A; PackageReference: W0014A; Input Type: TTL; Operating Temperature Range(C): -55 to 125; Technology Family: TTL; ComponentLink1Description: Manufacturer URL; ComponentLink1URL: http://www.ti.com/; ComponentLink2Description: Datasheet; ComponentLink2URL: http://www.ti.com/lit/ds/symlink/sn54121.pdf; ComponentLink3Description: Package Specification; ComponentLink3URL: http://www.ti.com/lit/ml/mcfp002c/mcfp002c.pdf
footprint W0014A_N (CFP, 14-Leads, Body 9.91x6.6mm, Pitch 1.27mm, IPC Medium Density)
footprint W0014A_M (CFP, 14-Leads, Body 9.91x6.6mm, Pitch 1.27mm, IPC Low Density)
footprint W0014A_L (CFP, 14-Leads, Body 9.91x6.6mm, Pitch 1.27mm, IPC High Density)
part A pins: 1 ~{Q} (out), 3 A1 (in), 4 A2 (in), 5 B (in), 6 Q (out), 7 GND (power), 9 RINT, 10 CEXT, 11 REXT/CEXT, 14 VCC (power)
part B pins: 2 NC, 8 NC, 12 NC, 13 NC

## SNJ54121WA
designator U?
Monostable Multivibrators With Schmitt-trigger Inputs, WA0014A, TUBE; Generic Part Number: SN54121; Manufacturer: Texas Instruments; PartNumber: SNJ54121WA; VCC(Min)(V): 4.75; VCC(Max)(V): 5.25; Output Type: TTL; ICC @ Nom Voltage(Max)(mA): 40; Bits(#): 1; Rating: Military; Output Drive (IOL/IOH)(Max)(mA): 16/-0.4; tpd @ Nom Voltage(Max)(ns): 80; DatasheetVersion: SDLS042A; PackageReference: WA0014A; Input Type: TTL; Operating Temperature Range(C): -55 to 125; Technology Family: TTL; ComponentLink1Description: Manufacturer URL; ComponentLink1URL: http://www.ti.com/; ComponentLink2Description: Datasheet; ComponentLink2URL: http://www.ti.com/lit/ds/symlink/sn54121.pdf; ComponentLink3Description: Package Specification; ComponentLink3URL: http://www.ti.com/lit/ds/symlink/sn5400.pdf
footprint WA0014A_N (CFP, 14-Leads, Body 7.11x5.06mm, Pitch 1.27mm, IPC Medium Density)
footprint WA0014A_M (CFP, 14-Leads, Body 7.11x5.06mm, Pitch 1.27mm, IPC Low Density)
footprint WA0014A_L (CFP, 14-Leads, Body 7.11x5.06mm, Pitch 1.27mm, IPC High Density)
part A pins: 1 ~{Q} (out), 3 A1 (in), 4 A2 (in), 5 B (in), 6 Q (out), 7 GND (power), 9 RINT, 10 CEXT, 11 REXT/CEXT, 14 VCC (power)
part B pins: 2 NC, 8 NC, 12 NC, 13 NC

## SNJ54123J
designator U?
Retriggerable Monostable Multivibrators, J0016A, TUBE; Generic Part Number: SN54123; Manufacturer: Texas Instruments; PartNumber: SNJ54123J; VCC(Min)(V): 4.75; VCC(Max)(V): 5.25; Output Type: TTL; ICC @ Nom Voltage(Max)(mA): 66; Bits(#): 2; Rating: Military; Output Drive (IOL/IOH)(Max)(mA): 16/-0.8; tpd @ Nom Voltage(Max)(ns): 40; DatasheetVersion: SDLS043; PackageReference: J0016A; Input Type: TTL; Operating Temperature Range(C): -55 to 125; Technology Family: TTL; ComponentLink1Description: Manufacturer URL; ComponentLink1URL: http://www.ti.com/; ComponentLink2Description: Datasheet; ComponentLink2URL: http://www.ti.com/lit/ds/symlink/sn54123.pdf; ComponentLink3Description: Package Specification; ComponentLink3URL: http://www.ti.com/lit/ml/mcer002d/mcer002d.pdf
footprint J0016A (DIP, 16-Leads, Body 21.35x7.2mm, Pitch 2.54mm)
part A pins: 1 1A (in), 2 1B (in), 3 1~{CLR} (in), 4 1~{Q} (out), 13 1Q (out), 14 1CEXT, 15 1REXT/CEXT
part B pins: 5 2Q (out), 6 2CEXT, 7 2REXT/CEXT, 9 2A (in), 10 2B (in), 11 2~{CLR} (in), 12 2~{Q} (out)
part C pins: 8 GND (power), 16 VCC (power)

## SNJ54123W
designator U?
Retriggerable Monostable Multivibrators, W0016A, TUBE; Generic Part Number: SN54123; Manufacturer: Texas Instruments; PartNumber: SNJ54123W; VCC(Min)(V): 4.75; VCC(Max)(V): 5.25; Output Type: TTL; ICC @ Nom Voltage(Max)(mA): 66; Bits(#): 2; Rating: Military; Output Drive (IOL/IOH)(Max)(mA): 16/-0.8; tpd @ Nom Voltage(Max)(ns): 40; DatasheetVersion: SDLS043; PackageReference: W0016A; Input Type: TTL; Operating Temperature Range(C): -55 to 125; Technology Family: TTL; ComponentLink1Description: Manufacturer URL; ComponentLink1URL: http://www.ti.com/; ComponentLink2Description: Datasheet; ComponentLink2URL: http://www.ti.com/lit/ds/symlink/sn54123.pdf; ComponentLink3Description: Package Specification; ComponentLink3URL: http://www.ti.com/lit/ml/mcfp004c/mcfp004c.pdf
footprint W0016A_N (CFP, 16-Leads, Body 10.92x7.24mm, Pitch 1.27mm, IPC Medium Density)
footprint W0016A_M (CFP, 16-Leads, Body 10.92x7.24mm, Pitch 1.27mm, IPC Low Density)
footprint W0016A_L (CFP, 16-Leads, Body 10.92x7.24mm, Pitch 1.27mm, IPC High Density)
part A pins: 1 1A (in), 2 1B (in), 3 1~{CLR} (in), 4 1~{Q} (out), 13 1Q (out), 14 1CEXT, 15 1REXT/CEXT
part B pins: 5 2Q (out), 6 2CEXT, 7 2REXT/CEXT, 9 2A (in), 10 2B (in), 11 2~{CLR} (in), 12 2~{Q} (out)
part C pins: 8 GND (power), 16 VCC (power)

## SNJ54145J
designator U?
BCD-to-Decimal Decoders/Drivers, J0016A, TUBE; Generic Part Number: SN54145; Manufacturer: Texas Instruments; PartNumber: SNJ54145J; VCC(Min)(V): 4.5; VCC(Max)(V): 5.5; Rating: Military; Technology Family: TTL; Schmitt Trigger: No; DatasheetVersion: SDLS051; PackageReference: J0016A; Operating Temperature Range(C): -55 to 125; ComponentLink1Description: Manufacturer URL; ComponentLink1URL: http://www.ti.com/; ComponentLink2Description: Datasheet; ComponentLink2URL: http://www.ti.com/lit/ds/symlink/sn54145.pdf; ComponentLink3Description: Package Specification; ComponentLink3URL: http://www.ti.com/lit/ml/mcer002d/mcer002d.pdf
footprint J0016A (DIP, 16-Leads, Body 21.35x7.2mm, Pitch 2.54mm)
pins: 1 ~{0} (oc), 2 ~{1} (oc), 3 ~{2} (oc), 4 ~{3} (oc), 5 ~{4} (oc), 6 ~{5} (oc), 7 ~{6} (oc), 8 GND (power), 9 ~{7} (oc), 10 ~{8} (oc), 11 ~{9} (oc), 12 D (in), 13 C (in), 14 B (in), 15 A (in), 16 VCC (power)

## SNJ54150J
designator U?
Data Selectors/Multiplexers, J0024A, TUBE; Generic Part Number: SN54150; Manufacturer: Texas Instruments; PartNumber: SNJ54150J; VCC(Min)(V): 4.5; VCC(Max)(V): 5.5; Rating: Military; Technology Family: TTL; Schmitt Trigger: No; DatasheetVersion: SDLS054; PackageReference: J0024A; Operating Temperature Range(C): -55 to 125; ComponentLink1Description: Manufacturer URL; ComponentLink1URL: http://www.ti.com/; ComponentLink2Description: Datasheet; ComponentLink2URL: http://www.ti.com/lit/ds/symlink/sn54150.pdf; ComponentLink3Description: Package Specification; ComponentLink3URL: http://www.ti.com/lit/ml/mcer002d/mcer002d.pdf
footprint J0024A (DIP, 24-Leads, Body 32.15x14.85mm, Pitch 2.54mm)
pins: 1 E7 (in), 2 E6 (in), 3 E5 (in), 4 E4 (in), 5 E3 (in), 6 E2 (in), 7 E1 (in), 8 E0 (in), 9 ~{G} (in), 10 ~{W} (out), 11 D (in), 12 GND (power), 13 C (in), 14 B (in), 15 A (in), 16 E15 (in), 17 E14 (in), 18 E13 (in), 19 E12 (in), 20 E11 (in), 21 E10 (in), 22 E9 (in), 23 E8 (in), 24 VCC (power)

## SNJ54150W
designator U?
Data Selectors/Multiplexers, W0024A, TUBE; Generic Part Number: SN54150; Manufacturer: Texas Instruments; PartNumber: SNJ54150W; VCC(Min)(V): 4.5; VCC(Max)(V): 5.5; Rating: Military; Technology Family: TTL; Schmitt Trigger: No; DatasheetVersion: SDLS054; PackageReference: W0024A; Operating Temperature Range(C): -55 to 125; ComponentLink1Description: Manufacturer URL; ComponentLink1URL: http://www.ti.com/; ComponentLink2Description: Datasheet; ComponentLink2URL: http://www.ti.com/lit/ds/symlink/sn54150.pdf; ComponentLink3Description: Package Specification; ComponentLink3URL: http://www.ti.com/lit/ml/mcfp006d/mcfp006d.pdf
footprint W0024A_N (CFP, 24-Leads, Body 16.26x9.53mm, Pitch 1.27mm, IPC Medium Density)
footprint W0024A_M (CFP, 24-Leads, Body 16.26x9.53mm, Pitch 1.27mm, IPC Low Density)
footprint W0024A_L (CFP, 24-Leads, Body 16.26x9.53mm, Pitch 1.27mm, IPC High Density)
pins: 1 E7 (in), 2 E6 (in), 3 E5 (in), 4 E4 (in), 5 E3 (in), 6 E2 (in), 7 E1 (in), 8 E0 (in), 9 ~{G} (in), 10 ~{W} (out), 11 D (in), 12 GND (power), 13 C (in), 14 B (in), 15 A (in), 16 E15 (in), 17 E14 (in), 18 E13 (in), 19 E12 (in), 20 E11 (in), 21 E10 (in), 22 E9 (in), 23 E8 (in), 24 VCC (power)

## SNJ54153J
designator U?
Dual 4-Line To 1-Line Data Selectors/Multiplexers, J0016A, TUBE; Generic Part Number: SN54153; Manufacturer: Texas Instruments; PartNumber: SNJ54153J; VCC(Min)(V): 4.5; VCC(Max)(V): 5.5; Rating: Military; Technology Family: TTL; Schmitt Trigger: No; DatasheetVersion: SDLS055A; PackageReference: J0016A; Operating Temperature Range(C): -55 to 125; ComponentLink1Description: Manufacturer URL; ComponentLink1URL: http://www.ti.com/; ComponentLink2Description: Datasheet; ComponentLink2URL: http://www.ti.com/lit/ds/symlink/sn54153.pdf; ComponentLink3Description: Package Specification; ComponentLink3URL: http://www.ti.com/lit/ml/mcer002d/mcer002d.pdf
footprint J0016A (DIP, 16-Leads, Body 21.35x7.2mm, Pitch 2.54mm)
pins: 1 1~{G} (in), 2 B (in), 3 1C3 (in), 4 1C2 (in), 5 1C1 (in), 6 1C0 (in), 7 1Y (out), 8 GND (power), 9 2Y (out), 10 2C0 (in), 11 2C1 (in), 12 2C2 (in), 13 2C3 (in), 14 A (in), 15 2~{G} (in), 16 VCC (power)

## SNJ54153W
designator U?
Dual 4-Line To 1-Line Data Selectors/Multiplexers, W0016A, TUBE; Generic Part Number: SN54153; Manufacturer: Texas Instruments; PartNumber: SNJ54153W; VCC(Min)(V): 4.5; VCC(Max)(V): 5.5; Rating: Military; Technology Family: TTL; Schmitt Trigger: No; DatasheetVersion: SDLS055A; PackageReference: W0016A; Operating Temperature Range(C): -55 to 125; ComponentLink1Description: Manufacturer URL; ComponentLink1URL: http://www.ti.com/; ComponentLink2Description: Datasheet; ComponentLink2URL: http://www.ti.com/lit/ds/symlink/sn54153.pdf; ComponentLink3Description: Package Specification; ComponentLink3URL: http://www.ti.com/lit/ml/mcfp004c/mcfp004c.pdf
footprint W0016A_N (CFP, 16-Leads, Body 10.92x7.24mm, Pitch 1.27mm, IPC Medium Density)
footprint W0016A_M (CFP, 16-Leads, Body 10.92x7.24mm, Pitch 1.27mm, IPC Low Density)
footprint W0016A_L (CFP, 16-Leads, Body 10.92x7.24mm, Pitch 1.27mm, IPC High Density)
pins: 1 1~{G} (in), 2 B (in), 3 1C3 (in), 4 1C2 (in), 5 1C1 (in), 6 1C0 (in), 7 1Y (out), 8 GND (power), 9 2Y (out), 10 2C0 (in), 11 2C1 (in), 12 2C2 (in), 13 2C3 (in), 14 A (in), 15 2~{G} (in), 16 VCC (power)

## SNJ54154J
designator U?
4-Line To 16-Line Decoders/Demultiplexers, J0024A, TUBE; Generic Part Number: SN54154; Manufacturer: Texas Instruments; PartNumber: SNJ54154J; VCC(Min)(V): 4.5; VCC(Max)(V): 5.5; Rating: Military; Technology Family: TTL; Schmitt Trigger: No; DatasheetVersion: SDLS056; PackageReference: J0024A; Operating Temperature Range(C): -55 to 125; ComponentLink1Description: Manufacturer URL; ComponentLink1URL: http://www.ti.com/; ComponentLink2Description: Datasheet; ComponentLink2URL: http://www.ti.com/lit/ds/symlink/sn54154.pdf; ComponentLink3Description: Package Specification; ComponentLink3URL: http://www.ti.com/lit/ml/mcer002d/mcer002d.pdf
footprint J0024A (DIP, 24-Leads, Body 32.15x14.85mm, Pitch 2.54mm)
pins: 1 ~{0} (out), 2 ~{1} (out), 3 ~{2} (out), 4 ~{3} (out), 5 ~{4} (out), 6 ~{5} (out), 7 ~{6} (out), 8 ~{7} (out), 9 ~{8} (out), 10 ~{9} (out), 11 ~{10} (out), 12 GND (power), 13 ~{11} (out), 14 ~{12} (out), 15 ~{13} (out), 16 ~{14} (out), 17 ~{15} (out), 18 ~{G}1 (in), 19 ~{G}2 (in), 20 D (in), 21 C (in), 22 B (in), 23 A (in), 24 VCC (power)

## SNJ54154W
designator U?
4-Line To 16-Line Decoders/Demultiplexers, W0024A, TUBE; Generic Part Number: SN54154; Manufacturer: Texas Instruments; PartNumber: SNJ54154W; VCC(Min)(V): 4.5; VCC(Max)(V): 5.5; Rating: Military; Technology Family: TTL; Schmitt Trigger: No; DatasheetVersion: SDLS056; PackageReference: W0024A; Operating Temperature Range(C): -55 to 125; ComponentLink1Description: Manufacturer URL; ComponentLink1URL: http://www.ti.com/; ComponentLink2Description: Datasheet; ComponentLink2URL: http://www.ti.com/lit/ds/symlink/sn54154.pdf; ComponentLink3Description: Package Specification; ComponentLink3URL: http://www.ti.com/lit/ml/mcfp006d/mcfp006d.pdf
footprint W0024A_N (CFP, 24-Leads, Body 16.26x9.53mm, Pitch 1.27mm, IPC Medium Density)
footprint W0024A_M (CFP, 24-Leads, Body 16.26x9.53mm, Pitch 1.27mm, IPC Low Density)
footprint W0024A_L (CFP, 24-Leads, Body 16.26x9.53mm, Pitch 1.27mm, IPC High Density)
pins: 1 ~{0} (out), 2 ~{1} (out), 3 ~{2} (out), 4 ~{3} (out), 5 ~{4} (out), 6 ~{5} (out), 7 ~{6} (out), 8 ~{7} (out), 9 ~{8} (out), 10 ~{9} (out), 11 ~{10} (out), 12 GND (power), 13 ~{11} (out), 14 ~{12} (out), 15 ~{13} (out), 16 ~{14} (out), 17 ~{15} (out), 18 ~{G}1 (in), 19 ~{G}2 (in), 20 D (in), 21 C (in), 22 B (in), 23 A (in), 24 VCC (power)

## SNJ54157J
designator U?
Quadruple 2-Line To 1-Line Data Selectors/Multiplexers, J0016A, TUBE; Generic Part Number: SN54157; Manufacturer: Texas Instruments; PartNumber: SNJ54157J; VCC(Min)(V): 4.5; VCC(Max)(V): 5.5; Rating: Military; Technology Family: TTL; Schmitt Trigger: No; DatasheetVersion: SDLS058; PackageReference: J0016A; Operating Temperature Range(C): -55 to 125; ComponentLink1Description: Manufacturer URL; ComponentLink1URL: http://www.ti.com/; ComponentLink2Description: Datasheet; ComponentLink2URL: http://www.ti.com/lit/ds/symlink/sn54157.pdf; ComponentLink3Description: Package Specification; ComponentLink3URL: http://www.ti.com/lit/ml/mcer002d/mcer002d.pdf
footprint J0016A (DIP, 16-Leads, Body 21.35x7.2mm, Pitch 2.54mm)
pins: 1 ~{A}/B (in), 2 1A (in), 3 1B (in), 4 1Y (out), 5 2A (in), 6 2B (in), 7 2Y (out), 8 GND (power), 9 3Y (out), 10 3B (in), 11 3A (in), 12 4Y (out), 13 4B (in), 14 4A (in), 15 ~{G} (in), 16 VCC (power)

## SNJ54157W
designator U?
Quadruple 2-Line To 1-Line Data Selectors/Multiplexers, W0016A, TUBE; Generic Part Number: SN54157; Manufacturer: Texas Instruments; PartNumber: SNJ54157W; VCC(Min)(V): 4.5; VCC(Max)(V): 5.5; Rating: Military; Technology Family: TTL; Schmitt Trigger: No; DatasheetVersion: SDLS058; PackageReference: W0016A; Operating Temperature Range(C): -55 to 125; ComponentLink1Description: Manufacturer URL; ComponentLink1URL: http://www.ti.com/; ComponentLink2Description: Datasheet; ComponentLink2URL: http://www.ti.com/lit/ds/symlink/sn54157.pdf; ComponentLink3Description: Package Specification; ComponentLink3URL: http://www.ti.com/lit/ml/mcfp004c/mcfp004c.pdf
footprint W0016A_N (CFP, 16-Leads, Body 10.92x7.24mm, Pitch 1.27mm, IPC Medium Density)
footprint W0016A_M (CFP, 16-Leads, Body 10.92x7.24mm, Pitch 1.27mm, IPC Low Density)
footprint W0016A_L (CFP, 16-Leads, Body 10.92x7.24mm, Pitch 1.27mm, IPC High Density)
pins: 1 ~{A}/B (in), 2 1A (in), 3 1B (in), 4 1Y (out), 5 2A (in), 6 2B (in), 7 2Y (out), 8 GND (power), 9 3Y (out), 10 3B (in), 11 3A (in), 12 4Y (out), 13 4B (in), 14 4A (in), 15 ~{G} (in), 16 VCC (power)

## SNJ54163J
designator U?
Synchronous 4-Bit Counters, J0016A, TUBE; Generic Part Number: SN54163; Manufacturer: Texas Instruments; PartNumber: SNJ54163J; Rating: Military; Technology Family: TTL; DatasheetVersion: SDLS060; PackageReference: J0016A; Operating Temperature Range(C): -55 to 125; ComponentLink1Description: Manufacturer URL; ComponentLink1URL: http://www.ti.com/; ComponentLink2Description: Datasheet; ComponentLink2URL: http://www.ti.com/lit/ds/symlink/sn54163.pdf; ComponentLink3Description: Package Specification; ComponentLink3URL: http://www.ti.com/lit/ml/mcer002d/mcer002d.pdf
footprint J0016A (DIP, 16-Leads, Body 21.35x7.2mm, Pitch 2.54mm)
pins: 1 ~{CLR} (in), 2 CLK (in), 3 A (in), 4 B (in), 5 C (in), 6 D (in), 7 ENP (in), 8 GND (power), 9 ~{LOAD} (in), 10 ENT (in), 11 QD (out), 12 QC (out), 13 QB (out), 14 QA (out), 15 RCO (out), 16 VCC (power)

## SNJ54163W
designator U?
Synchronous 4-Bit Counters, W0016A, TUBE; Generic Part Number: SN54163; Manufacturer: Texas Instruments; PartNumber: SNJ54163W; Rating: Military; Technology Family: TTL; DatasheetVersion: SDLS060; PackageReference: W0016A; Operating Temperature Range(C): -55 to 125; ComponentLink1Description: Manufacturer URL; ComponentLink1URL: http://www.ti.com/; ComponentLink2Description: Datasheet; ComponentLink2URL: http://www.ti.com/lit/ds/symlink/sn54163.pdf; ComponentLink3Description: Package Specification; ComponentLink3URL: http://www.ti.com/lit/ml/mcfp004c/mcfp004c.pdf
footprint W0016A_N (CFP, 16-Leads, Body 10.92x7.24mm, Pitch 1.27mm, IPC Medium Density)
footprint W0016A_M (CFP, 16-Leads, Body 10.92x7.24mm, Pitch 1.27mm, IPC Low Density)
footprint W0016A_L (CFP, 16-Leads, Body 10.92x7.24mm, Pitch 1.27mm, IPC High Density)
pins: 1 ~{CLR} (in), 2 CLK (in), 3 A (in), 4 B (in), 5 C (in), 6 D (in), 7 ENP (in), 8 GND (power), 9 ~{LOAD} (in), 10 ENT (in), 11 QD (out), 12 QC (out), 13 QB (out), 14 QA (out), 15 RCO (out), 16 VCC (power)

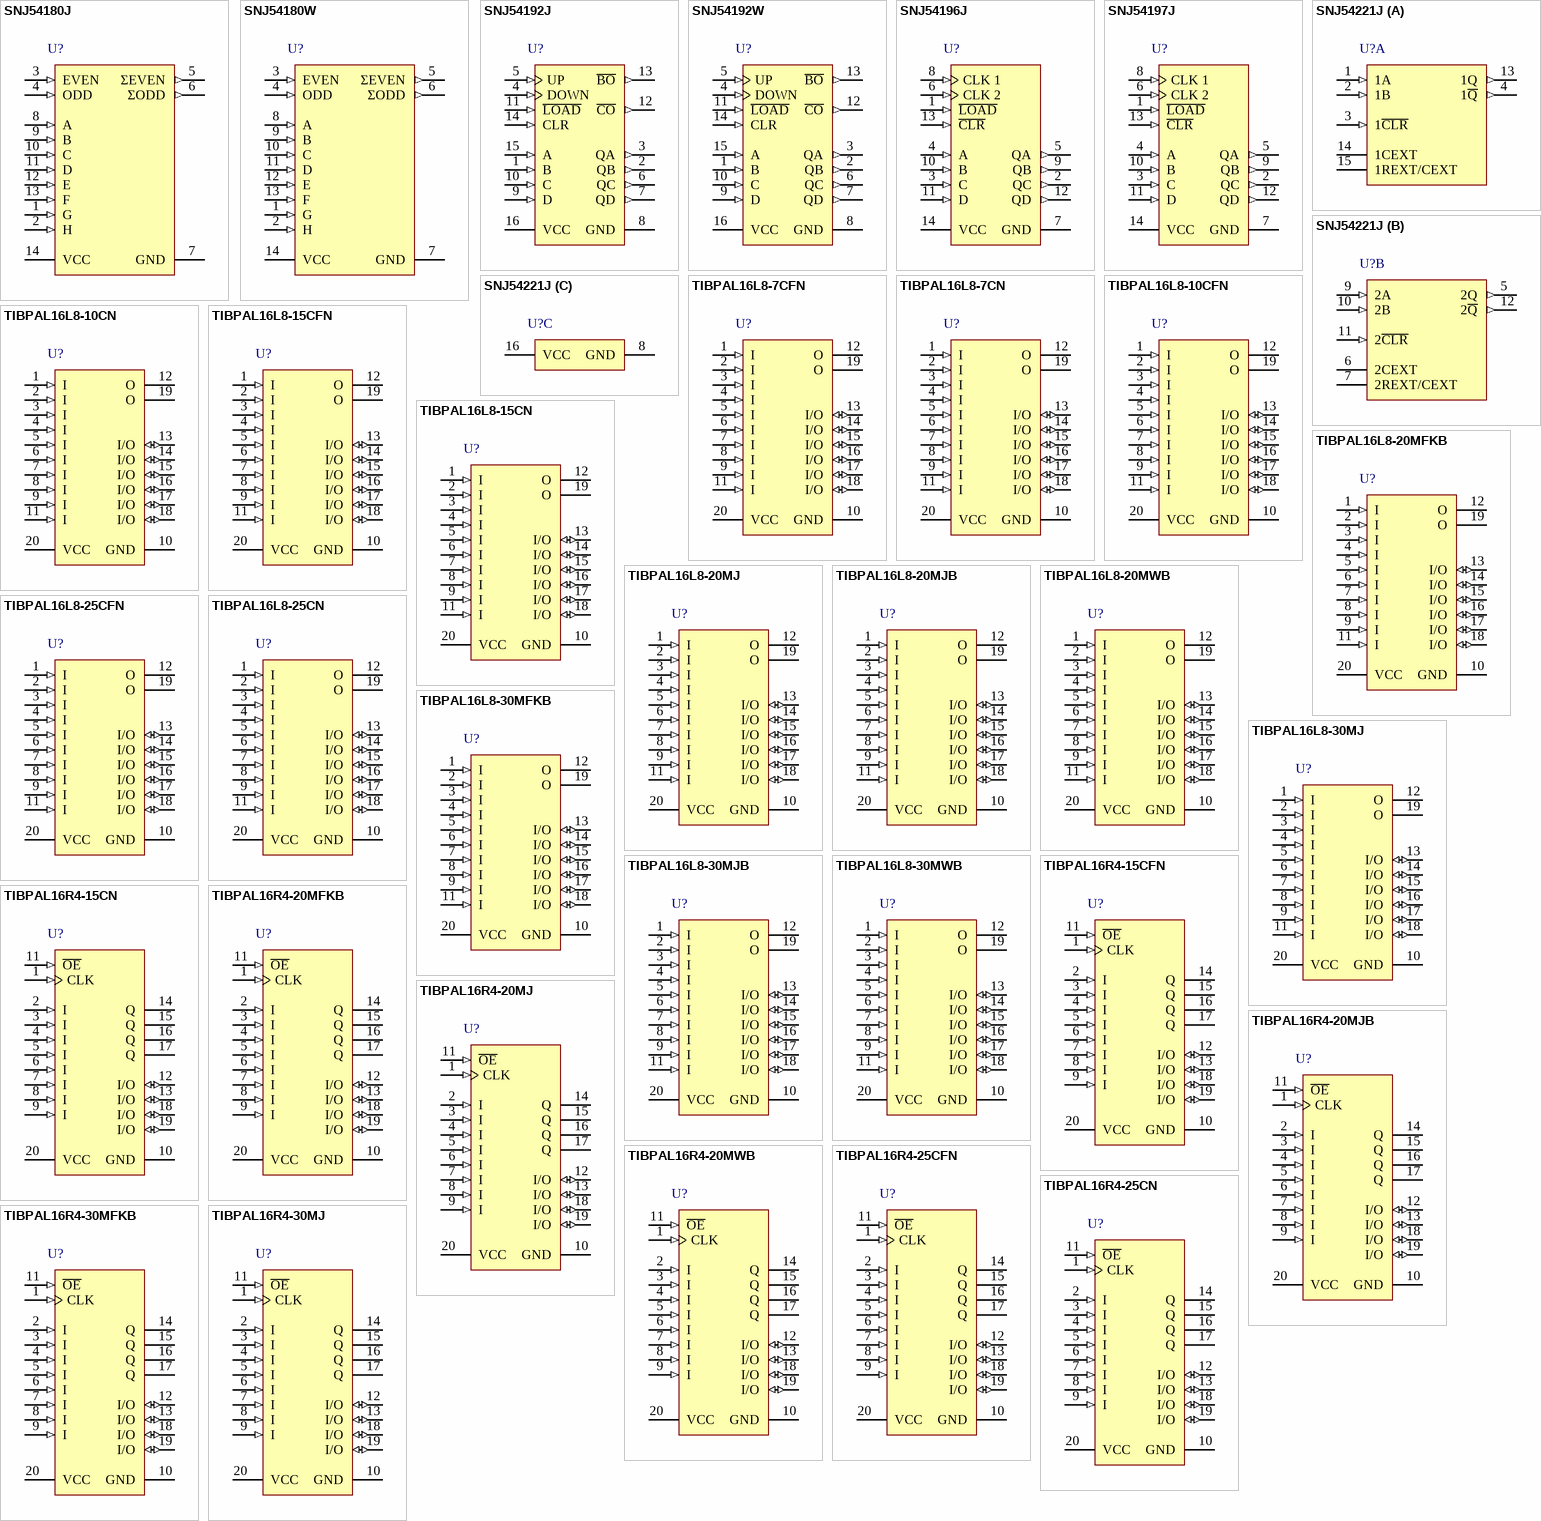
[diagram p101: symbols SNJ54180J to TIBPAL16R4-30MJ]

## SNJ54180J
designator U?
9-Bit Odd/Even Parity Generators/Checkers, J0014A, TUBE; Generic Part Number: SN54180; Manufacturer: Texas Instruments; PartNumber: SNJ54180J; Rating: Military; Technology Family: TTL; PackageReference: J0014A; Operating Temperature Range(C): -55 to 125; ComponentLink1Description: Manufacturer URL; ComponentLink1URL: http://www.ti.com/; ComponentLink2Description: Datasheet; ComponentLink2URL: http://www.ti.com/lit/ds/symlink/sn54180.pdf; ComponentLink3Description: Package Specification; ComponentLink3URL: http://www.ti.com/lit/ml/mcer002d/mcer002d.pdf
footprint J0014A (DIP, 14-Leads, Body 19.95x7.2mm, Pitch 2.54mm)
pins: 1 G (in), 2 H (in), 3 EVEN (in), 4 ODD (in), 5 ΣEVEN (out), 6 ΣODD (out), 7 GND (power), 8 A (in), 9 B (in), 10 C (in), 11 D (in), 12 E (in), 13 F (in), 14 VCC (power)